# Altium schematic symbol library SSM3J356R.Schlib: 1 symbol
Pins are listed as number, name and electrical type; pins without a type are passive.

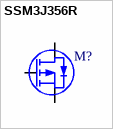
[diagram p0: symbol SSM3J356R]

## SSM3J356R
designator M?
60V 2A P-Channel
pins: 1 G, 2 S, 3 D